# EAGLE library part LM4889 (library ModernDevice#1)
LM4889 1 W Audio Amp
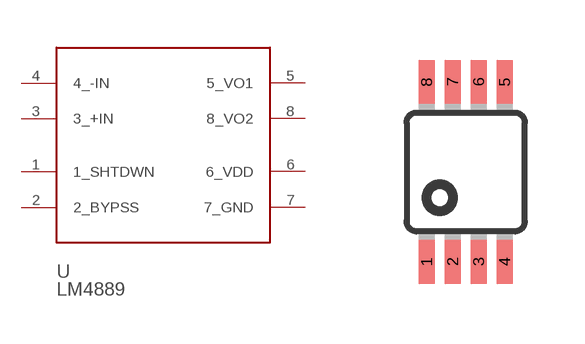
[diagram p53: symbol with the pads of MSOP8; footprint MSOP8]

Designator prefix -

## LM4889_MSOP  [MSOP8]
1  1_SHTDWN
2  2_BYPSS
3  3_+IN
4  4_-IN
5  5_VO1
6  6_VDD
7  7_GND
8  8_VO2

## Footprint MSOP8 (pad centres in mm)
8M, 8-Lead, 0.118" Wide, Miniature Small Outline Package MSOP 8M-Package doc1097.pdf
smd 0.4 x 1.1: 1 -0.975,-2.25; 2 -0.325,-2.25; 3 0.325,-2.25; 4 0.975,-2.25; 5 0.975,2.25; 6 0.325,2.25; 7 -0.325,2.25; 8 -0.975,2.25